# Altium footprint library FMC_SDR_gen.PcbLib: 34 footprints (part 2 of 3)
Each footprint in its own frame and in the unit in brackets; x right, y up, seen from the top. Pads: shape width x height; smd on the part's side, far side on the other; paste and mask are expansions set on the pad; w line width, h text height; cw(c..) or ccw(c..) is an arc to the next point about the centre after c.
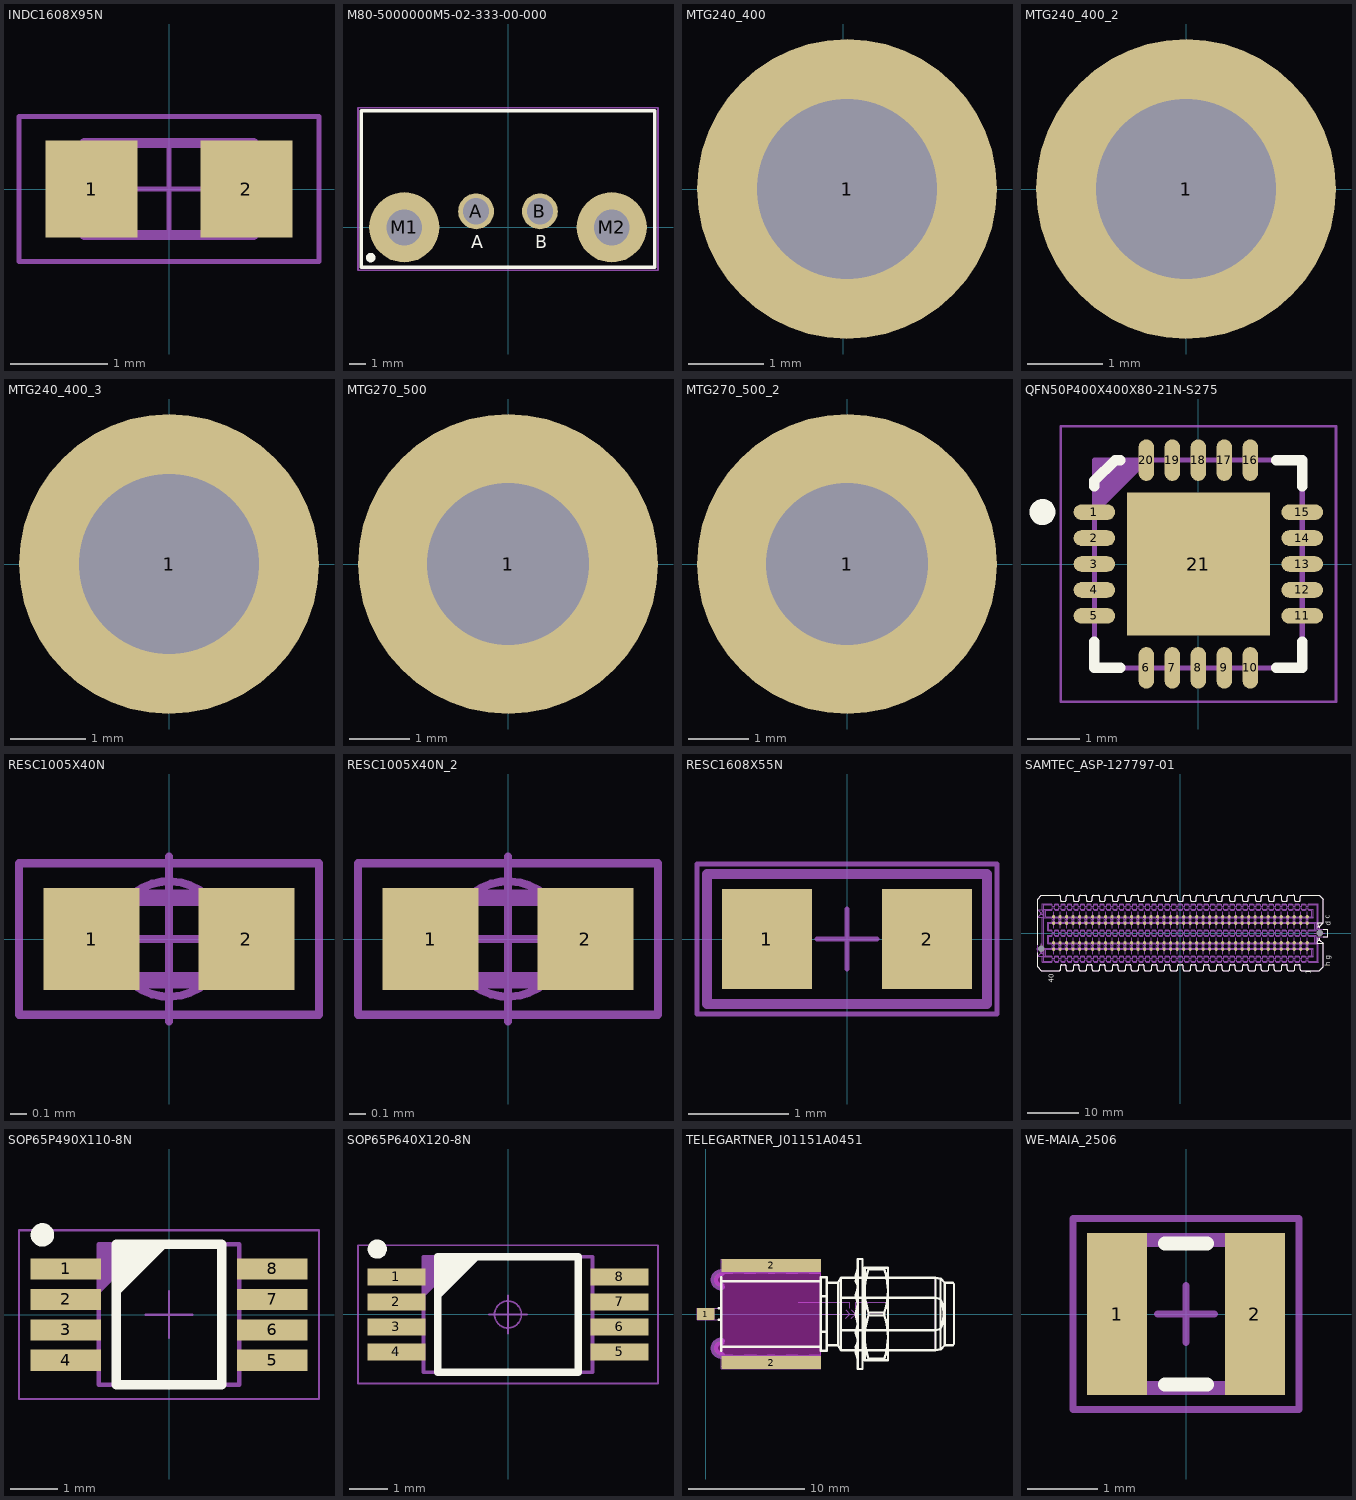
[diagram p1: the footprints below, top view; thin cyan lines are the x and y axes]

## INDC1608X95N [mm] "Chip Inductor, 2-Leads, EIA 0603, Metric 1608, Body 1.6x0.8mm, IPC Medium Density"
height 0.95
pads (2):
  rect 0.95x1 smd: 1(-0.8,0) 2(0.8,0)
Mechanical 14:
  lines w0.1: -0.875,-0.475 0.875,-0.475 0.875,0.475 -0.875,0.475 -0.875,-0.475
Mechanical 15:
  lines w0.05: -0.5,0 0.5,0 ; 0,-0.5 0,0.5 ; -1.55,-0.75 1.55,-0.75 1.55,0.75 -1.55,0.75 -1.55,-0.75
3D body "INDC1608X95N.stp": height 0.95, standoff -0.05, extent -0.875,-0.475 0.875,0.475

## M80-5000000M5-02-333-00-000 [mm] "2pin (2 power), THT socket with M2 jackscrews (H=6.05mm, W=18mm, D=8.6mm)"
height 6.05
pads (4):
  round 2.25 hole 1.65: A(-2,1) B(2,1)
  round 4.4 hole 2.25: M1(-6.5,0) M2(6.5,0)
Top Overlay:
  circle w0.3: c-8.6,-1.9 r0.15
  lines w0.2: -9.2,-2.5 9.2,-2.5 9.2,7.3 -9.2,7.3 -9.2,-2.5
  text "A" at -2.3,-1.3 h0.8
  text "B" at 1.7,-1.3 h0.8
Mechanical 15:
  lines w0.1: -9.4,-2.7 -9.4,7.5 9.4,7.5 9.4,-2.7 -9.4,-2.7
3D body "m80-5000000m5-02-333-00-000_asm.stp": height 6.08, standoff -4.67, extent -9,-2 9,7.1

## MTG240_400 [mm] "Plated Through Hole: Hole Dia.=2.4mm Pad Dia.=4.0mm"
height 5.21
pads (1):
  round 4 hole 2.4: 1(0.05,0)

## MTG240_400_2 [mm]
pads (1):
  round 4 hole 2.4: 1(0,0)

## MTG240_400_3 [mm]
pads (1):
  round 4 / inner round 3 / far side round 4 hole 2.4: 1(0,0)

## MTG270_500 [mm] "Plated Through Hole: Hole Dia.=2.7mm Pad Dia.=5.0mm"
pads (1):
  round 5 hole 2.7: 1(0,0)

## MTG270_500_2 [mm]
pads (1):
  round 5 hole 2.7: 1(0,0)

## QFN50P400X400X80-21N-S275 [mm] "QFN, 0.50mm Pitch, Square; 20 Pin, 4.00mm L X 4.00mm W X 0.80mm H Body (w/Thermal Tab 2.75 X 2.75mm),  IPC Medium Density"
height 0.8
pads (21):
  oval 0.8x0.3 smd: 1(-2,1) 2(-2,0.5) 3(-2,0) 4(-2,-0.5) 5(-2,-1) 11(2,-1) 12(2,-0.5) 13(2,0) 14(2,0.5) 15(2,1)
  oval 0.3x0.8 smd: 6(-1,-2) 7(-0.5,-2) 8(0,-2) 9(0.5,-2) 10(1,-2) 16(1,2) 17(0.5,2) 18(0,2) 19(-0.5,2) 20(-1,2)
  rect 2.75x2.75 smd: 21(0,0)
Top Overlay:
  circle w0.25: c-3,1 r0.125
  lines w0.2: -2,-1.5 -2,-2 -1.5,-2 ; -2,1.5 -2,1.6 -1.6,2 -1.5,2 ; 1.5,-2 2,-2 2,-1.5 ; 1.5,2 2,2 2,1.5
Mechanical 14:
  lines w0.1: -2,1 -1,2 ; -2,1.1 -1.1,2 ; -2,1.2 -1.2,2 ; -2,1.3 -1.3,2 ; -2,1.4 -1.4,2 ; -2,1.5 -1.5,2 ; -2,1.6 -1.6,2 ; -2,1.7 -1.7,2 ; -2,1.8 -1.8,2 ; -2,1.9 -1.9,2 ; -2,-2 2,-2 2,2 -2,2 -2,-2
Mechanical 15:
  circle w0.05: c0,0 r0.35
  lines w0.05: -0.5,0 0.5,0 ; 0,-0.5 0,0.5 ; -2.65,-2.65 2.65,-2.65 2.65,2.65 -2.65,2.65 -2.65,-2.65
3D body "QFN50P400X400X80-21N-S275.stp": height 0.8, standoff 0, extent -2,-2 2,2

## RESC1005X40N [mm] "Chip Resistor, EIA 0402, Metric 1005, Body 1.0x0.5mm, IPC Medium Density"
height 0.4
pads (2):
  rect 0.58x0.62 smd: 1(-0.47,0) 2(0.47,0)
Mechanical 14:
  lines w0.1: -0.5,-0.25 -0.5,0.25 0.5,0.25 0.5,-0.25 -0.5,-0.25
Mechanical 15:
  circle w0.05: c0,0 r0.35
  lines w0.05: -0.5,0 0.5,0 ; 0,-0.5 0,0.5 ; -0.91,-0.46 -0.91,0.46 0.91,0.46 0.91,-0.46 -0.91,-0.46
3D body "RESC1005X40N.stp": height 0.4, standoff 0, extent -0.525,-0.275 0.525,0.275

## RESC1005X40N_2 [mm]
pads (2):
  rect 0.58x0.62 smd: 1(-0.47,0) 2(0.47,0)
Mechanical 14:
  lines w0.1: -0.5,-0.25 -0.5,0.25 0.5,0.25 0.5,-0.25 -0.5,-0.25
Mechanical 15:
  circle w0.05: c0,0 r0.35
  lines w0.05: -0.5,0 0.5,0 ; 0,-0.5 0,0.5 ; -0.91,-0.46 -0.91,0.46 0.91,0.46 0.91,-0.46 -0.91,-0.46
3D body "RESC1005X40N.stp": height 0.4, standoff 0, extent -0.525,-0.275 0.525,0.275

## RESC1608X55N [mm] "Chip Resistor, EIA 0603, Metric 1608, Body 1.6x0.8mm, IPC Medium Density"
height 0.55
pads (2):
  rect 0.9x1 smd: 1(-0.8,0) 2(0.8,0)
Mechanical 14:
  lines w0.1: -1.4,-0.65 -1.4,0.65 1.4,0.65 1.4,-0.65 -1.4,-0.65
Mechanical 15:
  lines w0.05: -0.3,0 0.3,0 ; 0,-0.3 0,0.3 ; -1.5,-0.75 1.5,-0.75 1.5,0.75 -1.5,0.75 -1.5,-0.75
3D body "RESC1608X55N.stp": height 0.55, standoff 0, extent -0.875,-0.475 0.875,0.475

## SAMTEC_ASP-127797-01 [mm] "Connector VITA 57, 160 Male contacts in 4 row cdgh"
height 6.1
pads (162):
  round 1 hole 1.3 unplated mask+0.3: 1(-27.191,-3.048) 2(27.191,0)
  round 0.64 smd: c1(24.765,3.175) c2(23.495,3.175) c3(22.225,3.175) c4(20.955,3.175) c5(19.685,3.175) c6(18.415,3.175) c7(17.145,3.175) c8(15.875,3.175) c9(14.605,3.175) c10(13.335,3.175) c11(12.065,3.175) c12(10.795,3.175) c13(9.525,3.175) c14(8.255,3.175) c15(6.985,3.175) c16(5.715,3.175) c17(4.445,3.175) c18(3.175,3.175) c19(1.905,3.175) c20(0.635,3.175) c21(-0.635,3.175) c22(-1.905,3.175) c23(-3.175,3.175) c24(-4.445,3.175) c25(-5.715,3.175) c26(-6.985,3.175) c27(-8.255,3.175) c28(-9.525,3.175) c29(-10.795,3.175) c30(-12.065,3.175) c31(-13.335,3.175) c32(-14.605,3.175) c33(-15.875,3.175) c34(-17.145,3.175) c35(-18.415,3.175) c36(-19.685,3.175) c37(-20.955,3.175) c38(-22.225,3.175) c39(-23.495,3.175) c40(-24.765,3.175) d1(24.765,1.905) d2(23.495,1.905) d3(22.225,1.905) d4(20.955,1.905) d5(19.685,1.905) d6(18.415,1.905) d7(17.145,1.905) d8(15.875,1.905) d9(14.605,1.905) d10(13.335,1.905) d11(12.065,1.905) d12(10.795,1.905) d13(9.525,1.905) d14(8.255,1.905) d15(6.985,1.905) d16(5.715,1.905) d17(4.445,1.905) d18(3.175,1.905) d19(1.905,1.905) d20(0.635,1.905) d21(-0.635,1.905) d22(-1.905,1.905) d23(-3.175,1.905) d24(-4.445,1.905) d25(-5.715,1.905) d26(-6.985,1.905) d27(-8.255,1.905) d28(-9.525,1.905) d29(-10.795,1.905) d30(-12.065,1.905) d31(-13.335,1.905) d32(-14.605,1.905) d33(-15.875,1.905) d34(-17.145,1.905) d35(-18.415,1.905) d36(-19.685,1.905) d37(-20.955,1.905) d38(-22.225,1.905) d39(-23.495,1.905) d40(-24.765,1.905) g1(24.765,-1.905) g2(23.495,-1.905) g3(22.225,-1.905) g4(20.955,-1.905) g5(19.685,-1.905) g6(18.415,-1.905) g7(17.145,-1.905) g8(15.875,-1.905) g9(14.605,-1.905) g10(13.335,-1.905) g11(12.065,-1.905) g12(10.795,-1.905) g13(9.525,-1.905) g14(8.255,-1.905) g15(6.985,-1.905) g16(5.715,-1.905) g17(4.445,-1.905) g18(3.175,-1.905) g19(1.905,-1.905) g20(0.635,-1.905) g21(-0.635,-1.905) g22(-1.905,-1.905) g23(-3.175,-1.905) g24(-4.445,-1.905) g25(-5.715,-1.905) g26(-6.985,-1.905) g27(-8.255,-1.905) g28(-9.525,-1.905) g29(-10.795,-1.905) g30(-12.065,-1.905) g31(-13.335,-1.905) g32(-14.605,-1.905) g33(-15.875,-1.905) g34(-17.145,-1.905) g35(-18.415,-1.905) g36(-19.685,-1.905) g37(-20.955,-1.905) g38(-22.225,-1.905) g39(-23.495,-1.905) g40(-24.765,-1.905) h1(24.765,-3.175) h2(23.495,-3.175) h3(22.225,-3.175) h4(20.955,-3.175) h5(19.685,-3.175) h6(18.415,-3.175) h7(17.145,-3.175) h8(15.875,-3.175) h9(14.605,-3.175) h10(13.335,-3.175) h11(12.065,-3.175) h12(10.795,-3.175) h13(9.525,-3.175) h14(8.255,-3.175) h15(6.985,-3.175) h16(5.715,-3.175) h17(4.445,-3.175) h18(3.175,-3.175) h19(1.905,-3.175) h20(0.635,-3.175) h21(-0.635,-3.175) h22(-1.905,-3.175) h23(-3.175,-3.175) h24(-4.445,-3.175) h25(-5.715,-3.175) h26(-6.985,-3.175) h27(-8.255,-3.175) h28(-9.525,-3.175) h29(-10.795,-3.175) h30(-12.065,-3.175) h31(-13.335,-3.175) h32(-14.605,-3.175) h33(-15.875,-3.175) h34(-17.145,-3.175) h35(-18.415,-3.175) h36(-19.685,-3.175) h37(-20.955,-3.175) h38(-22.225,-3.175) h39(-23.495,-3.175) h40(-24.765,-3.175)
Top Overlay:
  drawing of 567 lines, arcs and shapes, not listed
  text "d" at 29.393,1.379 h1
  text "c" at 29.139,2.776 h1
  text "h" at 29.266,-6.495 h1
  text "g" at 29.266,-5.225 h1
  text "40" at -24.709,-9.67 h1
  text "1" at 25.417,-8.073 h1
Mechanical 8:
  drawing of 648 lines, arcs and shapes, not listed
Mechanical 14:
  drawing of 4433 lines, arcs and shapes, not listed
  text "c" at 29.972,2.921 h1
  text "d" at 29.989,1.545 h1
  text "h" at 29.972,-3.556 h1
  text "g" at 29.862,-2.231 h1
  text "40" at -27.305,-7.112 h1
  text "1" at 25.417,-8.073 h1
3D body "SAMTEC_ASP-127797-01.stp": height 5.61, standoff -1.27, extent -27.889,-7.341 28.778,7.341

## SOP65P490X110-8N [mm] "SOP, 0.65mm pitch; 8 pin, 3.00mm W X 3.00mm L X 1.10mm H body, IPC Medium Density"
height 1.1
pads (8):
  rect 1.5x0.45 smd: 1(-2.2,0.975) 2(-2.2,0.325) 3(-2.2,-0.325) 4(-2.2,-0.975) 5(2.2,-0.975) 6(2.2,-0.325) 7(2.2,0.325) 8(2.2,0.975)
Top Overlay:
  circle w0.25: c-2.7,1.7 r0.125
  lines w0.2: -1.125,0.5 -0.125,1.5 ; -1.125,0.7 -0.325,1.5 ; -1.125,0.9 -0.525,1.5 ; -1.125,1.1 -0.725,1.5 ; -1.125,1.3 -0.925,1.5 ; -1.125,-1.5 1.125,-1.5 1.125,1.5 -1.125,1.5 -1.125,-1.5
Mechanical 14:
  lines w0.1: -1.5,0.5 -0.5,1.5 ; -1.5,0.6 -0.6,1.5 ; -1.5,0.7 -0.7,1.5 ; -1.5,0.8 -0.8,1.5 ; -1.5,0.9 -0.9,1.5 ; -1.5,1 -1,1.5 ; -1.5,1.1 -1.1,1.5 ; -1.5,1.2 -1.2,1.5 ; -1.5,1.3 -1.3,1.5 ; -1.5,1.4 -1.4,1.5 ; -1.5,-1.5 1.5,-1.5 1.5,1.5 -1.5,1.5 -1.5,-1.5
Mechanical 15:
  lines w0.05: -0.5,0 0.5,0 ; 0,-0.5 0,0.5 ; -3.2,-1.8 -3.2,1.8 3.2,1.8 3.2,-1.8 -3.2,-1.8
3D body "SOP65P490X110-8N.stp": height 1.1, standoff 0, extent -2.45,-1.55 2.45,1.55

## SOP65P640X120-8N [mm] "SOP, 0.65mm pitch; 8 pin, 4.40mm W X 3.00mm L X 1.20mm H body, IPC Medium Density"
height 1.2
pads (8):
  rect 1.5x0.45 smd: 1(-2.9,0.975) 2(-2.9,0.325) 3(-2.9,-0.325) 4(-2.9,-0.975) 5(2.9,-0.975) 6(2.9,-0.325) 7(2.9,0.325) 8(2.9,0.975)
Top Overlay:
  circle w0.25: c-3.4,1.7 r0.125
  lines w0.2: -1.825,0.5 -0.825,1.5 ; -1.825,0.7 -1.025,1.5 ; -1.825,0.9 -1.225,1.5 ; -1.825,1.1 -1.425,1.5 ; -1.825,1.3 -1.625,1.5 ; -1.825,-1.5 1.825,-1.5 1.825,1.5 -1.825,1.5 -1.825,-1.5
Mechanical 14:
  lines w0.1: -2.2,0.5 -1.2,1.5 ; -2.2,0.6 -1.3,1.5 ; -2.2,0.7 -1.4,1.5 ; -2.2,0.8 -1.5,1.5 ; -2.2,0.9 -1.6,1.5 ; -2.2,1 -1.7,1.5 ; -2.2,1.1 -1.8,1.5 ; -2.2,1.2 -1.9,1.5 ; -2.2,1.3 -2,1.5 ; -2.2,1.4 -2.1,1.5 ; -2.2,-1.5 2.2,-1.5 2.2,1.5 -2.2,1.5 -2.2,-1.5
Mechanical 15:
  circle w0.05: c0,0 r0.35
  lines w0.05: -0.5,0 0.5,0 ; 0,-0.5 0,0.5 ; -3.9,-1.8 3.9,-1.8 3.9,1.8 -3.9,1.8 -3.9,-1.8
3D body "SOP65P640X120-8N.stp": height 1.2, standoff 0, extent -3.201,-1.55 3.201,1.55

## TELEGARTNER_J01151A0451 [mm] "SMA 50 ohm Edge Mount Bulkhead Jack Receptacle"
height 7
pads (3):
  rect 1.5x1 smd: 1(0,0)
  rect 8.6x1.1 smd: 2(5.65,-4.2) 2(5.65,4.2)
Top Overlay:
  lines w0.2: 1.1,-0.5 1.35,-0.5 ; 1.1,0.5 1.35,0.5 ; 1.35,-3.2 1.35,3.2 ; 1.35,-2.828 9.95,-2.828 ; 1.35,2.828 9.95,2.828 ; 9.95,-3.2 9.95,3.2 ; 9.95,-3.175 10.45,-3.175 10.45,3.175 9.95,3.175 ; 9.95,-1.534 10.45,-1.534 ; 9.95,1.534 10.45,1.534 ; 10.45,-2.7 11.45,-2.7 ; 10.45,2.7 11.45,2.7 ; 11.692,-1.416 19.85,-1.416 20.292,-1.274 ccw(c17.512,0) 20.292,1.274 19.85,1.416 11.692,1.416 ; 13.15,-4 12.95,-3.312 13.15,-3.253 ; 13.15,-3.415 12.95,-2.868 13.15,-2.36 ; 13.15,-2.31 12.95,-1.656 13.15,-0.886 ; 13.15,-0.817 12.95,0 13.15,0.825 ; 13.15,0.894 12.95,1.656 13.15,2.316 ; 13.15,2.366 12.95,2.868 13.15,3.464 ; 13.15,3.253 12.95,3.312 13.15,4 ; 13.55,-4 13.75,-3.312 13.55,-3.253 ; 13.55,-3.464 13.75,-2.868 13.55,-2.367 ; 13.55,-2.299 13.75,-1.656 13.55,-0.906 ; 13.55,-0.813 13.75,0 13.55,0.813 ; 13.55,0.906 13.75,1.656 13.55,2.306 ; 13.55,2.374 13.75,2.868 13.55,3.464 ; 13.55,3.253 13.75,3.312 13.55,4 ; 14.067,-4 14.067,-3.875 ; 14.067,4 14.067,3.875 ; 15.433,-4 15.433,-3.875 ; 15.433,4 15.433,3.875 ; 21.35,-2.7 20.65,-2.7 ; 21.35,2.7 20.65,2.7 ; 21.45,-2.6 21.45,2.6 ; 11.45,-2.7 11.692,-3.12 ; 11.45,-2.7 11.45,2.7 ; 11.45,2.7 11.692,3.12 ; 11.692,-3.12 19.85,-3.12 ; 11.692,-3.12 11.692,3.12 ; 11.692,3.12 19.85,3.12 ; 14.067,-3.875 cw(c19.461,-2) 14.067,-0.125 ; 14.067,-3.875 15.433,-3.875 ; 14.067,-0.125 14.067,0.125 ; 14.067,-0.125 15.433,-0.125 ; 14.067,0.125 cw(c19.461,2) 14.067,3.875 ; 14.067,0.125 15.433,0.125 ; 14.067,3.875 15.433,3.875 ; 15.433,-3.875 ccw(c10.039,-2) 15.433,-0.125 ; 15.433,-0.125 15.433,0.125 ; 15.433,0.125 ccw(c10.039,2) 15.433,3.875 ; 19.85,-3.12 19.85,3.12 ; 19.85,-3.12 20.292,-3.058 ; 19.85,3.12 20.292,3.058 ; 20.292,-3.058 20.65,-2.7 ; 20.292,-3.058 20.292,3.058 ; 20.292,3.058 20.65,2.7 ; 20.65,-2.7 20.65,2.7 ; 13.15,-4.75 13.55,-4.75 13.55,4.75 13.15,4.75 13.15,-4.75 ; 13.75,-4 13.75,4 15.75,4 15.75,-4 13.75,-4
Keep-Out Layer:
  board cut-out: 1.35,-3.55 1.231,-3.55 1.01,-3.459 0.841,-3.29 0.75,-3.069 0.75,-2.831 0.841,-2.61 1.01,-2.441 1.231,-2.35 1.35,-2.35 1.35,2.35 1.231,2.35 1.01,2.441 0.841,2.61 0.75,2.831 0.75,3.069 0.841,3.29 1.01,3.459 1.231,3.55 1.35,3.55 9.95,3.55 9.95,-3.55
Mechanical 1:
  lines w0.1: 1.35,-3.55 9.95,-3.55 ; 1.35,-2.35 1.35,2.35 ; 1.35,3.55 9.95,3.55
  lines w0.635: 1.35,-3.55 cw(c1.35,-2.95) 1.35,-2.35 ; 1.35,2.35 cw(c1.35,2.95) 1.35,3.55
Mechanical 8:
  lines w0.1: -0.5,0 0,0 ; 0,-0.5 0,0 ; 0,0.5 0,0 ; 0.5,0 0,0 ; 5.15,-4.2 5.65,-4.2 ; 5.15,4.2 5.65,4.2 ; 5.65,-4.7 5.65,-4.2 ; 5.65,-3.7 5.65,-4.2 ; 5.65,3.7 5.65,4.2 ; 5.65,4.7 5.65,4.2 ; 6.15,-4.2 5.65,-4.2 ; 6.15,4.2 5.65,4.2 ; 8,1 12.45,1 12.45,0.5 ; 9.95,-0.25 9.95,0.25 ; 9.95,0 12.45,0 ; 12.096,-0.354 12.45,0 ; 12.096,0.354 12.45,0 ; 12.596,-0.354 12.95,0 ; 12.596,0.354 12.95,0 ; 12.95,0.5 12.95,1 15.75,1 ; 12.45,0 12.95,0 ; -0.75,-0.5 0.75,-0.5 0.75,0.5 -0.75,0.5 -0.75,-0.5 ; 1.35,-4.75 1.35,-3.65 9.95,-3.65 9.95,-4.75 1.35,-4.75 ; 1.35,3.65 1.35,4.75 9.95,4.75 9.95,3.65 1.35,3.65
  text "3mm" at 13.05,1.275 h1
  text "2.5mm" at 8,1.25 h1
Mechanical 14:
  lines w0.1: 1.35,-3.5 2.35,-3.5 ; 1.35,-2.828 9.95,-2.828 ; 1.35,-0.5 -0.65,-0.5 -0.65,0.5 1.35,0.5 ; 1.35,2.828 9.95,2.828 ; 1.35,3.5 2.35,3.5 ; 3.35,-3.5 4.35,-3.5 ; 3.35,3.5 4.35,3.5 ; 5.35,-3.5 5.95,-3.5 ; 5.35,3.5 5.95,3.5 ; 6.95,-3.5 7.95,-3.5 ; 6.95,3.5 7.95,3.5 ; 8.95,-3.5 9.95,-3.5 ; 8.95,3.5 9.95,3.5 ; 9.95,-3.175 10.45,-3.175 10.45,3.175 9.95,3.175 ; 9.95,-1.534 10.45,-1.534 ; 9.95,1.534 10.45,1.534 ; 10.45,-2.7 11.45,-2.7 ; 10.45,2.7 11.45,2.7 ; 11.692,-1.416 19.85,-1.416 20.292,-1.274 ccw(c17.512,0) 20.292,1.274 19.85,1.416 11.692,1.416 ; 13.15,-4 12.95,-3.312 13.15,-3.253 ; 13.15,-3.415 12.95,-2.868 13.15,-2.36 ; 13.15,-2.31 12.95,-1.656 13.15,-0.886 ; 13.15,-0.817 12.95,0 13.15,0.825 ; 13.15,0.894 12.95,1.656 13.15,2.316 ; 13.15,2.366 12.95,2.868 13.15,3.464 ; 13.15,3.253 12.95,3.312 13.15,4 ; 13.55,-4 13.75,-3.312 13.55,-3.253 ; 13.55,-3.464 13.75,-2.868 13.55,-2.367 ; 13.55,-2.299 13.75,-1.656 13.55,-0.906 ; 13.55,-0.813 13.75,0 13.55,0.813 ; 13.55,0.906 13.75,1.656 13.55,2.306 ; 13.55,2.374 13.75,2.868 13.55,3.464 ; 13.55,3.253 13.75,3.312 13.55,4 ; 14.067,-4 14.067,-3.875 ; 14.067,4 14.067,3.875 ; 15.433,-4 15.433,-3.875 ; 15.433,4 15.433,3.875 ; 21.35,-2.7 20.65,-2.7 ; 21.35,2.7 20.65,2.7 ; 21.45,-2.6 21.45,2.6 ; 11.45,-2.7 11.692,-3.12 ; 11.45,-2.7 11.45,2.7 ; 11.45,2.7 11.692,3.12 ; 11.692,-3.12 19.85,-3.12 ; 11.692,-3.12 11.692,3.12 ; 11.692,3.12 19.85,3.12 ; 14.067,-3.875 cw(c19.461,-2) 14.067,-0.125 ; 14.067,-3.875 15.433,-3.875 ; 14.067,-0.125 14.067,0.125 ; 14.067,-0.125 15.433,-0.125 ; 14.067,0.125 cw(c19.461,2) 14.067,3.875 ; 14.067,0.125 15.433,0.125 ; 14.067,3.875 15.433,3.875 ; 15.433,-3.875 ccw(c10.039,-2) 15.433,-0.125 ; 15.433,-0.125 15.433,0.125 ; 15.433,0.125 ccw(c10.039,2) 15.433,3.875 ; 19.85,-3.12 19.85,3.12 ; 19.85,-3.12 20.292,-3.058 ; 19.85,3.12 20.292,3.058 ; 20.292,-3.058 20.65,-2.7 ; 20.292,-3.058 20.292,3.058 ; 20.292,3.058 20.65,2.7 ; 20.65,-2.7 20.65,2.7 ; 1.35,-4.5 9.95,-4.5 9.95,4.5 1.35,4.5 1.35,-4.5 ; 13.15,-4.75 13.55,-4.75 13.55,4.75 13.15,4.75 13.15,-4.75 ; 13.75,-4 13.75,4 15.75,4 15.75,-4 13.75,-4
Drill Drawing:
  lines w0.1: 1.348,2.468 0.926,3.374 ; 1.832,2.952 0.926,3.374 ; 2.29,-2.104 1.35,-1.762 ; 2.29,-1.42 1.35,-1.762 ; 5.14,2.083 2.217,2.083 0.926,3.374 ; 7.794,-2.61 8.136,-3.55 ; 7.794,2.61 8.136,3.55 ; 8.478,-2.61 8.136,-3.55 ; 8.478,2.61 8.136,3.55 ; 9.01,-2.104 9.95,-1.762 ; 9.01,-1.42 9.95,-1.762 ; 9.95,-4.55 9.95,-3.55 1.35,-3.55 cw(c1.35,-2.95) 1.35,-2.35 1.35,2.35 cw(c1.35,2.95) 1.35,3.55 9.95,3.55 9.95,4.55 ; 9.95,-2.762 9.95,-0.762 ; 1.35,-1.762 9.95,-1.762 ; 8.136,-3.55 8.136,3.55
  text "7.1" at 7.889,-0.244 h1
  text "8.6" at 4.762,-1.609 h1
  text "r0.6" at 2.536,2.233 h1
3D body "TELEGARTNER_J01151A0451_Part1.stp": height 4, standoff -3.6, extent -0.65,-4.498 21.45,4.498
3D body "TELEGARTNER_J01151A0451_Part2.stp": height 5.25, standoff -4.25, extent 12.95,-4.75 15.75,4.75

## WE-MAIA_2506 [mm] "SMD Power Inductor, 2-leads, body 2.5x2.0mm"
height 0.6
pads (2):
  rect 0.85x2.3 smd: 1(-0.975,0) 2(0.975,0)
Top Overlay:
  lines w0.2: -0.3,-1 0.3,-1 ; -0.3,1 0.3,1
Mechanical 11:
  lines w0.1: -1.25,-1 -1.25,1 1.25,1 1.25,-1 -1.25,-1
Mechanical 13:
  lines w0.1: -1.35,-1.1 1.35,-1.1 1.35,1.1 -1.35,1.1 -1.35,-1.1
Mechanical 15:
  lines w0.1: -0.4,0 0.4,0 ; 0,-0.4 0,0.4 ; -1.6,-1.35 -1.6,1.35 1.6,1.35 1.6,-1.35 -1.6,-1.35
3D body "WE-IndMAIA_SSMC-252006-S.stp": height 0.63, standoff 0.03, extent -1.25,-1 1.25,1